# Altium footprint library WE-FC.PcbLib: 2 footprints
Each footprint in its own frame and in the unit in brackets; x right, y up, seen from the top. Pads: shape width x height; smd on the part's side, far side on the other; paste and mask are expansions set on the pad; w line width, h text height; cw(c..) or ccw(c..) is an arc to the next point about the centre after c.
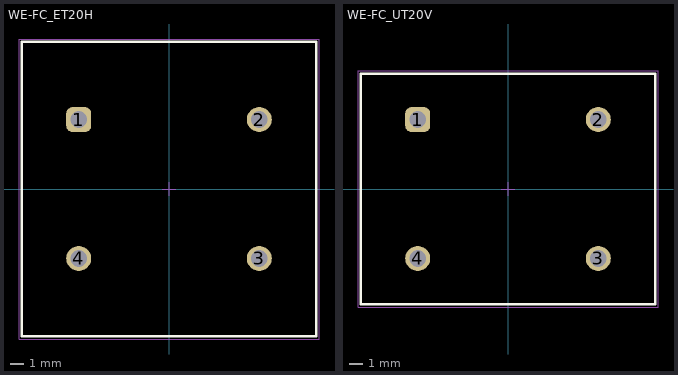
[diagram p0: the footprints below, top view; thin cyan lines are the x and y axes]

## WE-FC_ET20H [mm] "Common Mode Power Line Choke, 4-Leads, body 21.2x21.2mm"
height 17.8
pads (4):
  rrect50% 1.8x1.8 hole 1.2: 1(-6.5,5)
  round 1.8 hole 1.2: 2(6.5,5) 3(6.5,-5) 4(-6.5,-5)
Top Overlay:
  lines w0.2: -10.6,-10.6 -10.6,10.6 10.6,10.6 10.6,-10.6 -10.6,-10.6
Top Designator:
  text ".Designator" at -7.498,-0.5 h1.5
Top Component Outline:
  lines w0.1: -10.6,-10.6 -10.6,10.6 10.6,10.6 10.6,-10.6 -10.6,-10.6
Top Courtyard:
  lines w0.05: -0.5,0 0.5,0 ; 0,-0.5 0,0.5 ; -10.8,-10.8 10.8,-10.8 10.8,10.8 -10.8,10.8 -10.8,-10.8
3D body "WE-FC_ET20V.stp": height 17.54, standoff -3.68, extent -10.45,-10.45 10.45,10.45

## WE-FC_UT20V [mm] "Common Mode Power Line Choke, 4-Leads, body 21.2x16.6mm"
height 22.5
pads (4):
  rrect50% 1.8x1.8 hole 1.2: 1(-6.5,5)
  round 1.8 hole 1.2: 2(6.5,5) 3(6.5,-5) 4(-6.5,-5)
Top Overlay:
  lines w0.2: -10.6,-8.3 10.6,-8.3 10.6,8.3 -10.6,8.3 -10.6,-8.3
Top Designator:
  text ".Designator" at -7.498,-0.5 h1.5
Top Component Outline:
  lines w0.1: -10.6,-8.3 -10.6,8.3 10.6,8.3 10.6,-8.3 -10.6,-8.3
Top Courtyard:
  lines w0.05: -0.5,0 0.5,0 ; 0,-0.5 0,0.5 ; -10.8,-8.5 -10.8,8.5 10.8,8.5 10.8,-8.5 -10.8,-8.5
3D body "IndFC_UT.stp": height 22.6, standoff -3.19, extent -10.565,-8.27 10.565,8.27